# Altium footprint library PCB - LEADED - ISC060N10NM6ATMA1.PcbLib: 1 footprints
Each footprint in its own frame and in the unit in brackets; x right, y up, seen from the top. Pads: shape width x height; smd on the part's side, far side on the other; paste and mask are expansions set on the pad; w line width, h text height; cw(c..) or ccw(c..) is an arc to the next point about the centre after c.
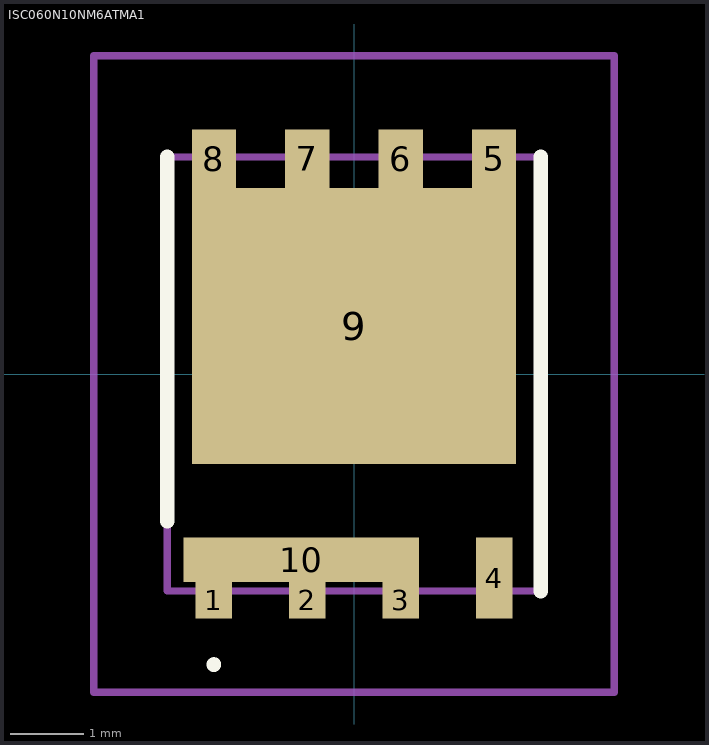
[diagram p0: the footprint, top view; thin cyan lines are the x and y axes]

## ISC060N10NM6ATMA1 [mm]
pads (10):
  rect 0.5x0.5 smd: 1(-1.905,-3.075) 2(-0.635,-3.075) 3(0.635,-3.075)
  rect 0.5x1.1 smd: 4(1.905,-2.775)
  rect 0.6x0.8 smd: 5(1.905,2.925) 6(0.635,2.925) 7(-0.635,2.925) 8(-1.905,2.925)
  rect 4.41x3.75 smd: 9(0,0.65)
  rect 3.2x0.6 smd: 10(-0.715,-2.525)
Top Overlay:
  lines w0.1: -1.905,-4 ccw(c-1.905,-3.95) -1.905,-3.9 ccw(c-1.905,-3.95) -1.905,-4
  lines w0.2: -2.538,-2 -2.538,2.95 ; 2.538,-2.95 2.538,2.95
Top Assembly:
  lines w0.1: -2.538,-2.95 2.538,-2.95 2.538,2.95 -2.538,2.95 -2.538,-2.95
Top Courtyard:
  lines w0.1: -3.538,-4.325 -3.538,4.325 3.538,4.325 3.538,-4.325 -3.538,-4.325
Top Designator:
  text ".Designator" at -2.286,3.62 h1.02
3D body "ISC060N10NM6ATMA1.stp": height 1.3, standoff 0, extent -2.538,-3.275 2.538,3.265